# Altium integrated library Altium_WE-SPXO (rev19a).IntLib: 134 symbols (part 1 of 2)
Pins are listed as number, name and electrical type; pins without a type are passive.

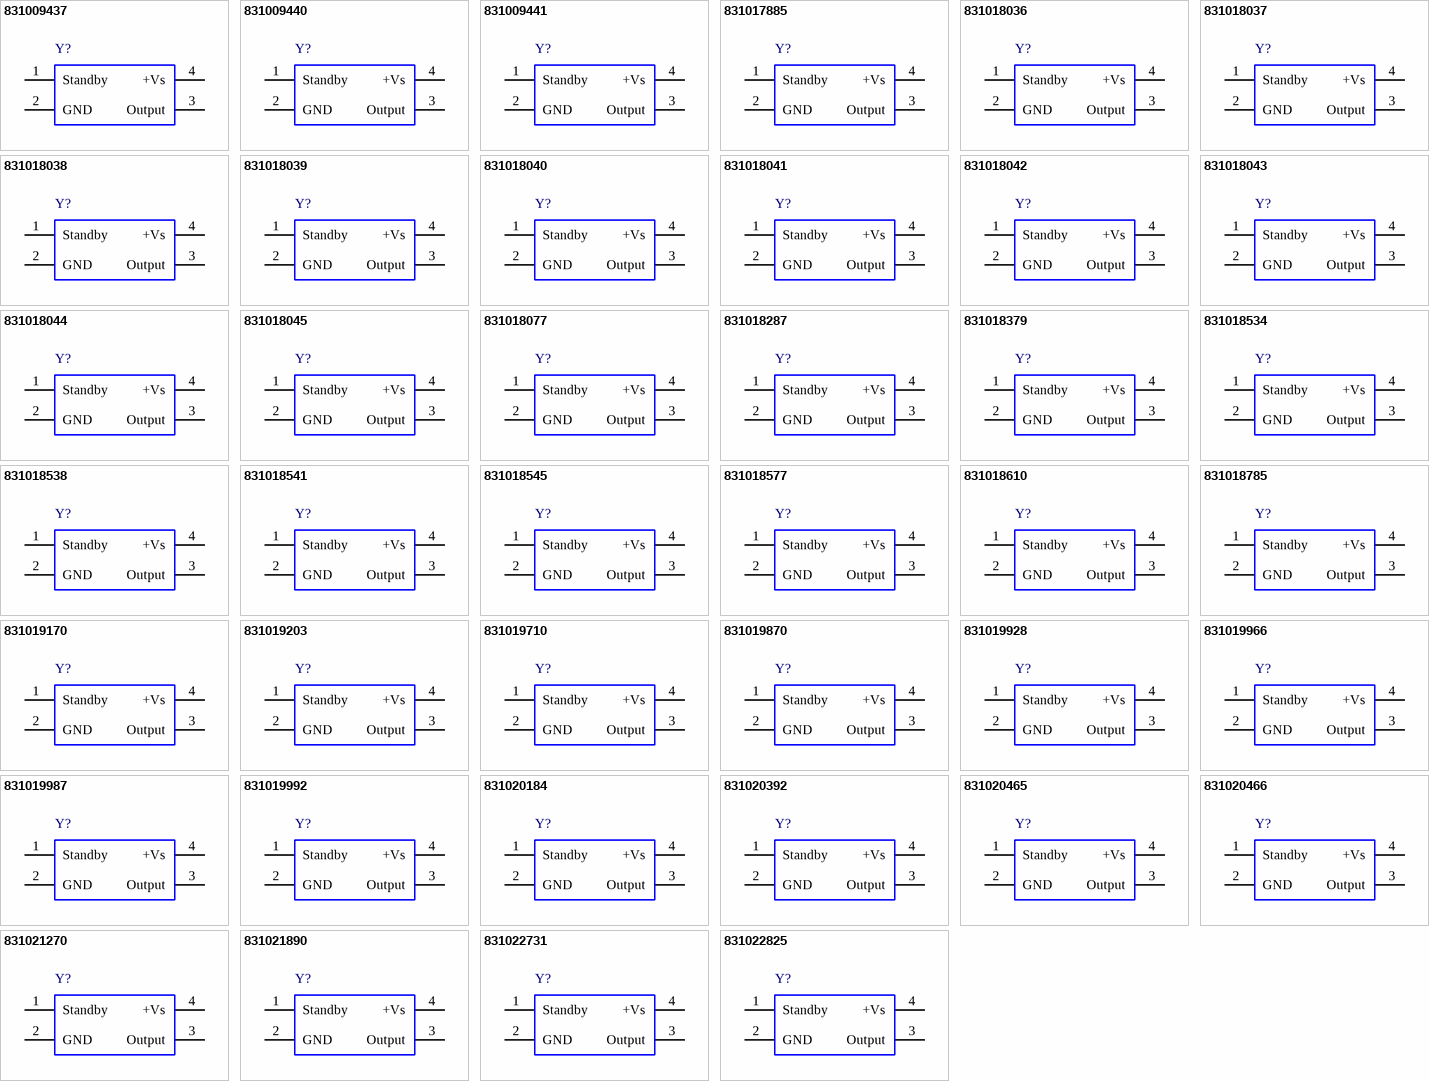
[diagram p0: symbols 831009437 to 831022825]

## 831009437
designator Y?, comment 100MHz, +/-50ppm, 3.3V  (value not drawn)
WE-SPXO Simple Packaged Quartz Oscillator, size CFPS-73, 100MHz, +/-50ppm, 3.3V; Part Number: 831009437; Frequency Stability: 50ppm; ComponentLink1Description: Manufacturer; ComponentLink1URL: http://www.we-online.de; ComponentLink2Description: Datasheet; ComponentLink2URL: https://katalog.we-online.com/pbs/datasheet/831009437.pdf; Published Date: March 2019; Publisher: Wurth Elektronik; Size: CFPS-73; Operating Temperature: 0 up to +70degC; Mounting Technology: SMT; Packaging: Tape and Reel; Supply Voltage: 3.3V; Frequency: 100MHz
footprint WE-SPXO_CFPS-73
pins: 1 Standby, 2 GND, 3 Output, 4 +Vs

## 831009440
designator Y?, comment 125MHz, +/-50ppm, 3.3V  (value not drawn)
WE-SPXO Simple Packaged Quartz Oscillator, size CFPS-73, 125MHz, +/-50ppm, 3.3V; Part Number: 831009440; Frequency Stability: 50ppm; ComponentLink1Description: Manufacturer; ComponentLink1URL: http://www.we-online.de; ComponentLink2Description: Datasheet; ComponentLink2URL: https://katalog.we-online.com/pbs/datasheet/831009440.pdf; Published Date: March 2019; Publisher: Wurth Elektronik; Size: CFPS-73; Operating Temperature: 0 up to +70degC; Mounting Technology: SMT; Packaging: Tape and Reel; Supply Voltage: 3.3V; Frequency: 125MHz
footprint WE-SPXO_CFPS-73
pins: 1 Standby, 2 GND, 3 Output, 4 +Vs

## 831009441
designator Y?, comment 80MHz, +/-50ppm, 3.3V  (value not drawn)
WE-SPXO Simple Packaged Quartz Oscillator, size CFPS-73, 80MHz, +/-50ppm, 3.3V; Part Number: 831009441; Frequency Stability: 50ppm; ComponentLink1Description: Manufacturer; ComponentLink1URL: http://www.we-online.de; ComponentLink2Description: Datasheet; ComponentLink2URL: https://katalog.we-online.com/pbs/datasheet/831009441.pdf; Published Date: March 2019; Publisher: Wurth Elektronik; Size: CFPS-73; Operating Temperature: 0 up to +70degC; Mounting Technology: SMT; Packaging: Tape and Reel; Supply Voltage: 3.3V; Frequency: 80MHz
footprint WE-SPXO_CFPS-73
pins: 1 Standby, 2 GND, 3 Output, 4 +Vs

## 831017885
designator Y?, comment 40MHz, +/-50ppm, 3.3V  (value not drawn)
WE-SPXO Simple Packaged Quartz Oscillator, size CFPS-73, 40MHz, +/-50ppm, 3.3V; Part Number: 831017885; Frequency Stability: 50ppm; ComponentLink1Description: Manufacturer; ComponentLink1URL: http://www.we-online.de; ComponentLink2Description: Datasheet; ComponentLink2URL: https://katalog.we-online.com/pbs/datasheet/831017885.pdf; Published Date: March 2019; Publisher: Wurth Elektronik; Size: CFPS-73; Operating Temperature: -40 up to +85degC; Mounting Technology: SMT; Packaging: Tape and Reel; Supply Voltage: 3.3V; Frequency: 40MHz
footprint WE-SPXO_CFPS-73
pins: 1 Standby, 2 GND, 3 Output, 4 +Vs

## 831018036
designator Y?, comment 10MHz, +/-50ppm, 3.3V  (value not drawn)
WE-SPXO Simple Packaged Quartz Oscillator, size CFPS-73, 10MHz, +/-50ppm, 3.3V; Part Number: 831018036; Frequency Stability: 50ppm; ComponentLink1Description: Manufacturer; ComponentLink1URL: http://www.we-online.de; ComponentLink2Description: Datasheet; ComponentLink2URL: https://katalog.we-online.com/pbs/datasheet/831018036.pdf; Published Date: March 2019; Publisher: Wurth Elektronik; Size: CFPS-73; Operating Temperature: 0 up to +70degC; Mounting Technology: SMT; Packaging: Tape and Reel; Supply Voltage: 3.3V; Frequency: 10MHz
footprint WE-SPXO_CFPS-73
pins: 1 Standby, 2 GND, 3 Output, 4 +Vs

## 831018037
designator Y?, comment 12MHz, +/-50ppm, 3.3V  (value not drawn)
WE-SPXO Simple Packaged Quartz Oscillator, size CFPS-73, 12MHz, +/-50ppm, 3.3V; Part Number: 831018037; Frequency Stability: 50ppm; ComponentLink1Description: Manufacturer; ComponentLink1URL: http://www.we-online.de; ComponentLink2Description: Datasheet; ComponentLink2URL: https://katalog.we-online.com/pbs/datasheet/831018037.pdf; Published Date: March 2019; Publisher: Wurth Elektronik; Size: CFPS-73; Operating Temperature: 0 up to +70degC; Mounting Technology: SMT; Packaging: Tape and Reel; Supply Voltage: 3.3V; Frequency: 12MHz
footprint WE-SPXO_CFPS-73
pins: 1 Standby, 2 GND, 3 Output, 4 +Vs

## 831018038
designator Y?, comment 16MHz, +/-50ppm, 3.3V  (value not drawn)
WE-SPXO Simple Packaged Quartz Oscillator, size CFPS-73, 16MHz, +/-50ppm, 3.3V; Part Number: 831018038; Frequency Stability: 50ppm; ComponentLink1Description: Manufacturer; ComponentLink1URL: http://www.we-online.de; ComponentLink2Description: Datasheet; ComponentLink2URL: https://katalog.we-online.com/pbs/datasheet/831018038.pdf; Published Date: March 2019; Publisher: Wurth Elektronik; Size: CFPS-73; Operating Temperature: 0 up to +70degC; Mounting Technology: SMT; Packaging: Tape and Reel; Supply Voltage: 3.3V; Frequency: 16MHz
footprint WE-SPXO_CFPS-73
pins: 1 Standby, 2 GND, 3 Output, 4 +Vs

## 831018039
designator Y?, comment 20MHz, +/-50ppm, 3.3V  (value not drawn)
WE-SPXO Simple Packaged Quartz Oscillator, size CFPS-73, 20MHz, +/-50ppm, 3.3V; Part Number: 831018039; Frequency Stability: 50ppm; ComponentLink1Description: Manufacturer; ComponentLink1URL: http://www.we-online.de; ComponentLink2Description: Datasheet; ComponentLink2URL: https://katalog.we-online.com/pbs/datasheet/831018039.pdf; Published Date: March 2019; Publisher: Wurth Elektronik; Size: CFPS-73; Operating Temperature: 0 up to +70degC; Mounting Technology: SMT; Packaging: Tape and Reel; Supply Voltage: 3.3V; Frequency: 20MHz
footprint WE-SPXO_CFPS-73
pins: 1 Standby, 2 GND, 3 Output, 4 +Vs

## 831018040
designator Y?, comment 32MHz, +/-50ppm, 3.3V  (value not drawn)
WE-SPXO Simple Packaged Quartz Oscillator, size CFPS-73, 32MHz, +/-50ppm, 3.3V; Part Number: 831018040; Frequency Stability: 50ppm; ComponentLink1Description: Manufacturer; ComponentLink1URL: http://www.we-online.de; ComponentLink2Description: Datasheet; ComponentLink2URL: https://katalog.we-online.com/pbs/datasheet/831018040.pdf; Published Date: March 2019; Publisher: Wurth Elektronik; Size: CFPS-73; Operating Temperature: 0 up to +70degC; Mounting Technology: SMT; Packaging: Tape and Reel; Supply Voltage: 3.3V; Frequency: 32MHz
footprint WE-SPXO_CFPS-73
pins: 1 Standby, 2 GND, 3 Output, 4 +Vs

## 831018041
designator Y?, comment 4MHz, +/-50ppm, 3.3V  (value not drawn)
WE-SPXO Simple Packaged Quartz Oscillator, size CFPS-73, 4MHz, +/-50ppm, 3.3V; Part Number: 831018041; Frequency Stability: 50ppm; ComponentLink1Description: Manufacturer; ComponentLink1URL: http://www.we-online.de; ComponentLink2Description: Datasheet; ComponentLink2URL: https://katalog.we-online.com/pbs/datasheet/831018041.pdf; Published Date: March 2019; Publisher: Wurth Elektronik; Size: CFPS-73; Operating Temperature: 0 up to +70degC; Mounting Technology: SMT; Packaging: Tape and Reel; Supply Voltage: 3.3V; Frequency: 4MHz
footprint WE-SPXO_CFPS-73
pins: 1 Standby, 2 GND, 3 Output, 4 +Vs

## 831018042
designator Y?, comment 40MHz, +/-50ppm, 3.3V  (value not drawn)
WE-SPXO Simple Packaged Quartz Oscillator, size CFPS-73, 40MHz, +/-50ppm, 3.3V; Part Number: 831018042; Frequency Stability: 50ppm; ComponentLink1Description: Manufacturer; ComponentLink1URL: http://www.we-online.de; ComponentLink2Description: Datasheet; ComponentLink2URL: https://katalog.we-online.com/pbs/datasheet/831018042.pdf; Published Date: March 2019; Publisher: Wurth Elektronik; Size: CFPS-73; Operating Temperature: 0 up to +70degC; Mounting Technology: SMT; Packaging: Tape and Reel; Supply Voltage: 3.3V; Frequency: 40MHz
footprint WE-SPXO_CFPS-73
pins: 1 Standby, 2 GND, 3 Output, 4 +Vs

## 831018043
designator Y?, comment 48MHz, +/-50ppm, 3.3V  (value not drawn)
WE-SPXO Simple Packaged Quartz Oscillator, size CFPS-73, 48MHz, +/-50ppm, 3.3V; Part Number: 831018043; Frequency Stability: 50ppm; ComponentLink1Description: Manufacturer; ComponentLink1URL: http://www.we-online.de; ComponentLink2Description: Datasheet; ComponentLink2URL: https://katalog.we-online.com/pbs/datasheet/831018043.pdf; Published Date: March 2019; Publisher: Wurth Elektronik; Size: CFPS-73; Operating Temperature: 0 up to +70degC; Mounting Technology: SMT; Packaging: Tape and Reel; Supply Voltage: 3.3V; Frequency: 48MHz
footprint WE-SPXO_CFPS-73
pins: 1 Standby, 2 GND, 3 Output, 4 +Vs

## 831018044
designator Y?, comment 50MHz, +/-50ppm, 3.3V  (value not drawn)
WE-SPXO Simple Packaged Quartz Oscillator, size CFPS-73, 50MHz, +/-50ppm, 3.3V; Part Number: 831018044; Frequency Stability: 50ppm; ComponentLink1Description: Manufacturer; ComponentLink1URL: http://www.we-online.de; ComponentLink2Description: Datasheet; ComponentLink2URL: https://katalog.we-online.com/pbs/datasheet/831018044.pdf; Published Date: March 2019; Publisher: Wurth Elektronik; Size: CFPS-73; Operating Temperature: 0 up to +70degC; Mounting Technology: SMT; Packaging: Tape and Reel; Supply Voltage: 3.3V; Frequency: 50MHz
footprint WE-SPXO_CFPS-73
pins: 1 Standby, 2 GND, 3 Output, 4 +Vs

## 831018045
designator Y?, comment 8MHz, +/-50ppm, 3.3V  (value not drawn)
WE-SPXO Simple Packaged Quartz Oscillator, size CFPS-73, 8MHz, +/-50ppm, 3.3V; Part Number: 831018045; Frequency Stability: 50ppm; ComponentLink1Description: Manufacturer; ComponentLink1URL: http://www.we-online.de; ComponentLink2Description: Datasheet; ComponentLink2URL: https://katalog.we-online.com/pbs/datasheet/831018045.pdf; Published Date: March 2019; Publisher: Wurth Elektronik; Size: CFPS-73; Operating Temperature: 0 up to +70degC; Mounting Technology: SMT; Packaging: Tape and Reel; Supply Voltage: 3.3V; Frequency: 8MHz
footprint WE-SPXO_CFPS-73
pins: 1 Standby, 2 GND, 3 Output, 4 +Vs

## 831018077
designator Y?, comment 25MHz, +/-50ppm, 3.3V  (value not drawn)
WE-SPXO Simple Packaged Quartz Oscillator, size CFPS-73, 25MHz, +/-50ppm, 3.3V; Part Number: 831018077; Frequency Stability: 50ppm; ComponentLink1Description: Manufacturer; ComponentLink1URL: http://www.we-online.de; ComponentLink2Description: Datasheet; ComponentLink2URL: https://katalog.we-online.com/pbs/datasheet/831018077.pdf; Published Date: March 2019; Publisher: Wurth Elektronik; Size: CFPS-73; Operating Temperature: 0 up to +70degC; Mounting Technology: SMT; Packaging: Tape and Reel; Supply Voltage: 3.3V; Frequency: 25MHz
footprint WE-SPXO_CFPS-73
pins: 1 Standby, 2 GND, 3 Output, 4 +Vs

## 831018287
designator Y?, comment 48MHz, +/-100ppm, 3.3V  (value not drawn)
WE-SPXO Simple Packaged Quartz Oscillator, size CFPS-73, 48MHz, +/-100ppm, 3.3V; Part Number: 831018287; Frequency Stability: 100ppm; ComponentLink1Description: Manufacturer; ComponentLink1URL: http://www.we-online.de; ComponentLink2Description: Datasheet; ComponentLink2URL: https://katalog.we-online.com/pbs/datasheet/831018287.pdf; Published Date: March 2019; Publisher: Wurth Elektronik; Size: CFPS-73; Operating Temperature: -40 up to +85degC; Mounting Technology: SMT; Packaging: Tape and Reel; Supply Voltage: 3.3V; Frequency: 48MHz
footprint WE-SPXO_CFPS-73
pins: 1 Standby, 2 GND, 3 Output, 4 +Vs

## 831018379
designator Y?, comment 4MHz, +/-50ppm, 3.3V  (value not drawn)
WE-SPXO Simple Packaged Quartz Oscillator, size CFPS-73, 4MHz, +/-50ppm, 3.3V; Part Number: 831018379; Frequency Stability: 50ppm; ComponentLink1Description: Manufacturer; ComponentLink1URL: http://www.we-online.de; ComponentLink2Description: Datasheet; ComponentLink2URL: https://katalog.we-online.com/pbs/datasheet/831018379.pdf; Published Date: March 2019; Publisher: Wurth Elektronik; Size: CFPS-73; Operating Temperature: -40 up to +85degC; Mounting Technology: SMT; Packaging: Tape and Reel; Supply Voltage: 3.3V; Frequency: 4MHz
footprint WE-SPXO_CFPS-73
pins: 1 Standby, 2 GND, 3 Output, 4 +Vs

## 831018534
designator Y?, comment 6MHz, +/-50ppm, 3.3V  (value not drawn)
WE-SPXO Simple Packaged Quartz Oscillator, size CFPS-73, 6MHz, +/-50ppm, 3.3V; Part Number: 831018534; Frequency Stability: 50ppm; ComponentLink1Description: Manufacturer; ComponentLink1URL: http://www.we-online.de; ComponentLink2Description: Datasheet; ComponentLink2URL: https://katalog.we-online.com/pbs/datasheet/831018534.pdf; Published Date: March 2019; Publisher: Wurth Elektronik; Size: CFPS-73; Operating Temperature: 0 up to +70degC; Mounting Technology: SMT; Packaging: Tape and Reel; Supply Voltage: 3.3V; Frequency: 6MHz
footprint WE-SPXO_CFPS-73
pins: 1 Standby, 2 GND, 3 Output, 4 +Vs

## 831018538
designator Y?, comment 14.31818MHz, +/-50ppm, 3.3V  (value not drawn)
WE-SPXO Simple Packaged Quartz Oscillator, size CFPS-73, 14.31818MHz, +/-50ppm, 3.3V; Part Number: 831018538; Frequency Stability: 50ppm; ComponentLink1Description: Manufacturer; ComponentLink1URL: http://www.we-online.de; ComponentLink2Description: Datasheet; ComponentLink2URL: https://katalog.we-online.com/pbs/datasheet/831018538.pdf; Published Date: March 2019; Publisher: Wurth Elektronik; Size: CFPS-73; Operating Temperature: 0 up to +70degC; Mounting Technology: SMT; Packaging: Tape and Reel; Supply Voltage: 3.3V; Frequency: 14.31818MHz
footprint WE-SPXO_CFPS-73
pins: 1 Standby, 2 GND, 3 Output, 4 +Vs

## 831018541
designator Y?, comment 24MHz, +/-50ppm, 3.3V  (value not drawn)
WE-SPXO Simple Packaged Quartz Oscillator, size CFPS-73, 24MHz, +/-50ppm, 3.3V; Part Number: 831018541; Frequency Stability: 50ppm; ComponentLink1Description: Manufacturer; ComponentLink1URL: http://www.we-online.de; ComponentLink2Description: Datasheet; ComponentLink2URL: https://katalog.we-online.com/pbs/datasheet/831018541.pdf; Published Date: March 2019; Publisher: Wurth Elektronik; Size: CFPS-73; Operating Temperature: 0 up to +70degC; Mounting Technology: SMT; Packaging: Tape and Reel; Supply Voltage: 3.3V; Frequency: 24MHz
footprint WE-SPXO_CFPS-73
pins: 1 Standby, 2 GND, 3 Output, 4 +Vs

## 831018545
designator Y?, comment 60MHz, +/-50ppm, 3.3V  (value not drawn)
WE-SPXO Simple Packaged Quartz Oscillator, size CFPS-73, 60MHz, +/-50ppm, 3.3V; Part Number: 831018545; Frequency Stability: 50ppm; ComponentLink1Description: Manufacturer; ComponentLink1URL: http://www.we-online.de; ComponentLink2Description: Datasheet; ComponentLink2URL: https://katalog.we-online.com/pbs/datasheet/831018545.pdf; Published Date: March 2019; Publisher: Wurth Elektronik; Size: CFPS-73; Operating Temperature: 0 up to +70degC; Mounting Technology: SMT; Packaging: Tape and Reel; Supply Voltage: 3.3V; Frequency: 60MHz
footprint WE-SPXO_CFPS-73
pins: 1 Standby, 2 GND, 3 Output, 4 +Vs

## 831018577
designator Y?, comment 48MHz, +/-50ppm, 3.3V  (value not drawn)
WE-SPXO Simple Packaged Quartz Oscillator, size CFPS-73, 48MHz, +/-50ppm, 3.3V; Part Number: 831018577; Frequency Stability: 50ppm; ComponentLink1Description: Manufacturer; ComponentLink1URL: http://www.we-online.de; ComponentLink2Description: Datasheet; ComponentLink2URL: https://katalog.we-online.com/pbs/datasheet/831018577.pdf; Published Date: March 2019; Publisher: Wurth Elektronik; Size: CFPS-73; Operating Temperature: -40 up to +85degC; Mounting Technology: SMT; Packaging: Tape and Reel; Supply Voltage: 3.3V; Frequency: 48MHz
footprint WE-SPXO_CFPS-73
pins: 1 Standby, 2 GND, 3 Output, 4 +Vs

## 831018610
designator Y?, comment 3.6864MHz, +/-50ppm, 3.3V  (value not drawn)
WE-SPXO Simple Packaged Quartz Oscillator, size CFPS-73, 3.6864MHz, +/-50ppm, 3.3V; Part Number: 831018610; Frequency Stability: 50ppm; ComponentLink1Description: Manufacturer; ComponentLink1URL: http://www.we-online.de; ComponentLink2Description: Datasheet; ComponentLink2URL: https://katalog.we-online.com/pbs/datasheet/831018610.pdf; Published Date: March 2019; Publisher: Wurth Elektronik; Size: CFPS-73; Operating Temperature: 0 up to +70degC; Mounting Technology: SMT; Packaging: Tape and Reel; Supply Voltage: 3.3V; Frequency: 3.6864MHz
footprint WE-SPXO_CFPS-73
pins: 1 Standby, 2 GND, 3 Output, 4 +Vs

## 831018785
designator Y?, comment 12MHz, +/-100ppm, 3.3V  (value not drawn)
WE-SPXO Simple Packaged Quartz Oscillator, size CFPS-73, 12MHz, +/-100ppm, 3.3V; Part Number: 831018785; Frequency Stability: 100ppm; ComponentLink1Description: Manufacturer; ComponentLink1URL: http://www.we-online.de; ComponentLink2Description: Datasheet; ComponentLink2URL: https://katalog.we-online.com/pbs/datasheet/831018785.pdf; Published Date: March 2019; Publisher: Wurth Elektronik; Size: CFPS-73; Operating Temperature: -40 up to +85degC; Mounting Technology: SMT; Packaging: Tape and Reel; Supply Voltage: 3.3V; Frequency: 12MHz
footprint WE-SPXO_CFPS-73
pins: 1 Standby, 2 GND, 3 Output, 4 +Vs

## 831019170
designator Y?, comment 25MHz, +/-50ppm, 3.3V  (value not drawn)
WE-SPXO Simple Packaged Quartz Oscillator, size CFPS-73, 25MHz, +/-50ppm, 3.3V; Part Number: 831019170; Frequency Stability: 50ppm; ComponentLink1Description: Manufacturer; ComponentLink1URL: http://www.we-online.de; ComponentLink2Description: Datasheet; ComponentLink2URL: https://katalog.we-online.com/pbs/datasheet/831019170.pdf; Published Date: March 2019; Publisher: Wurth Elektronik; Size: CFPS-73; Operating Temperature: -40 up to +85degC; Mounting Technology: SMT; Packaging: Tape and Reel; Supply Voltage: 3.3V; Frequency: 25MHz
footprint WE-SPXO_CFPS-73
pins: 1 Standby, 2 GND, 3 Output, 4 +Vs

## 831019203
designator Y?, comment 32.768MHz, +/-50ppm, 3.3V  (value not drawn)
WE-SPXO Simple Packaged Quartz Oscillator, size CFPS-73, 32.768MHz, +/-50ppm, 3.3V; Part Number: 831019203; Frequency Stability: 50ppm; ComponentLink1Description: Manufacturer; ComponentLink1URL: http://www.we-online.de; ComponentLink2Description: Datasheet; ComponentLink2URL: https://katalog.we-online.com/pbs/datasheet/831019203.pdf; Published Date: March 2019; Publisher: Wurth Elektronik; Size: CFPS-73; Operating Temperature: 0 up to +70degC; Mounting Technology: SMT; Packaging: Tape and Reel; Supply Voltage: 3.3V; Frequency: 32.768MHz
footprint WE-SPXO_CFPS-73
pins: 1 Standby, 2 GND, 3 Output, 4 +Vs

## 831019710
designator Y?, comment 16MHz, +/-50ppm, 3.3V  (value not drawn)
WE-SPXO Simple Packaged Quartz Oscillator, size CFPS-73, 16MHz, +/-50ppm, 3.3V; Part Number: 831019710; Frequency Stability: 50ppm; ComponentLink1Description: Manufacturer; ComponentLink1URL: http://www.we-online.de; ComponentLink2Description: Datasheet; ComponentLink2URL: https://katalog.we-online.com/pbs/datasheet/831019710.pdf; Published Date: March 2019; Publisher: Wurth Elektronik; Size: CFPS-73; Operating Temperature: -40 up to +85degC; Mounting Technology: SMT; Packaging: Tape and Reel; Supply Voltage: 3.3V; Frequency: 16MHz
footprint WE-SPXO_CFPS-73
pins: 1 Standby, 2 GND, 3 Output, 4 +Vs

## 831019870
designator Y?, comment 40MHz, +/-100ppm, 3.3V  (value not drawn)
WE-SPXO Simple Packaged Quartz Oscillator, size CFPS-73, 40MHz, +/-100ppm, 3.3V; Part Number: 831019870; Frequency Stability: 100ppm; ComponentLink1Description: Manufacturer; ComponentLink1URL: http://www.we-online.de; ComponentLink2Description: Datasheet; ComponentLink2URL: https://katalog.we-online.com/pbs/datasheet/831019870.pdf; Published Date: March 2019; Publisher: Wurth Elektronik; Size: CFPS-73; Operating Temperature: -40 up to +85degC; Mounting Technology: SMT; Packaging: Tape and Reel; Supply Voltage: 3.3V; Frequency: 40MHz
footprint WE-SPXO_CFPS-73
pins: 1 Standby, 2 GND, 3 Output, 4 +Vs

## 831019928
designator Y?, comment 10MHz, +/-50ppm, 3.3V  (value not drawn)
WE-SPXO Simple Packaged Quartz Oscillator, size CFPS-73, 10MHz, +/-50ppm, 3.3V; Part Number: 831019928; Frequency Stability: 50ppm; ComponentLink1Description: Manufacturer; ComponentLink1URL: http://www.we-online.de; ComponentLink2Description: Datasheet; ComponentLink2URL: https://katalog.we-online.com/pbs/datasheet/831019928.pdf; Published Date: March 2019; Publisher: Wurth Elektronik; Size: CFPS-73; Operating Temperature: -40 up to +85degC; Mounting Technology: SMT; Packaging: Tape and Reel; Supply Voltage: 3.3V; Frequency: 10MHz
footprint WE-SPXO_CFPS-73
pins: 1 Standby, 2 GND, 3 Output, 4 +Vs

## 831019966
designator Y?, comment 12MHz, +/-50ppm, 3.3V  (value not drawn)
WE-SPXO Simple Packaged Quartz Oscillator, size CFPS-73, 12MHz, +/-50ppm, 3.3V; Part Number: 831019966; Frequency Stability: 50ppm; ComponentLink1Description: Manufacturer; ComponentLink1URL: http://www.we-online.de; ComponentLink2Description: Datasheet; ComponentLink2URL: https://katalog.we-online.com/pbs/datasheet/831019966.pdf; Published Date: March 2019; Publisher: Wurth Elektronik; Size: CFPS-73; Operating Temperature: -40 up to +85degC; Mounting Technology: SMT; Packaging: Tape and Reel; Supply Voltage: 3.3V; Frequency: 12MHz
footprint WE-SPXO_CFPS-73
pins: 1 Standby, 2 GND, 3 Output, 4 +Vs

## 831019987
designator Y?, comment 50MHz, +/-50ppm, 3.3V  (value not drawn)
WE-SPXO Simple Packaged Quartz Oscillator, size CFPS-73, 50MHz, +/-50ppm, 3.3V; Part Number: 831019987; Frequency Stability: 50ppm; ComponentLink1Description: Manufacturer; ComponentLink1URL: http://www.we-online.de; ComponentLink2Description: Datasheet; ComponentLink2URL: https://katalog.we-online.com/pbs/datasheet/831019987.pdf; Published Date: March 2019; Publisher: Wurth Elektronik; Size: CFPS-73; Operating Temperature: -40 up to +85degC; Mounting Technology: SMT; Packaging: Tape and Reel; Supply Voltage: 3.3V; Frequency: 50MHz
footprint WE-SPXO_CFPS-73
pins: 1 Standby, 2 GND, 3 Output, 4 +Vs

## 831019992
designator Y?, comment 20MHz, +/-50ppm, 3.3V  (value not drawn)
WE-SPXO Simple Packaged Quartz Oscillator, size CFPS-73, 20MHz, +/-50ppm, 3.3V; Part Number: 831019992; Frequency Stability: 50ppm; ComponentLink1Description: Manufacturer; ComponentLink1URL: http://www.we-online.de; ComponentLink2Description: Datasheet; ComponentLink2URL: https://katalog.we-online.com/pbs/datasheet/831019992.pdf; Published Date: March 2019; Publisher: Wurth Elektronik; Size: CFPS-73; Operating Temperature: -40 up to +85degC; Mounting Technology: SMT; Packaging: Tape and Reel; Supply Voltage: 3.3V; Frequency: 20MHz
footprint WE-SPXO_CFPS-73
pins: 1 Standby, 2 GND, 3 Output, 4 +Vs

## 831020184
designator Y?, comment 14.31818MHz, +/-50ppm, 3.3V  (value not drawn)
WE-SPXO Simple Packaged Quartz Oscillator, size CFPS-73, 14.31818MHz, +/-50ppm, 3.3V; Part Number: 831020184; Frequency Stability: 50ppm; ComponentLink1Description: Manufacturer; ComponentLink1URL: http://www.we-online.de; ComponentLink2Description: Datasheet; ComponentLink2URL: https://katalog.we-online.com/pbs/datasheet/831020184.pdf; Published Date: March 2019; Publisher: Wurth Elektronik; Size: CFPS-73; Operating Temperature: -40 up to +85degC; Mounting Technology: SMT; Packaging: Tape and Reel; Supply Voltage: 3.3V; Frequency: 14.31818MHz
footprint WE-SPXO_CFPS-73
pins: 1 Standby, 2 GND, 3 Output, 4 +Vs

## 831020392
designator Y?, comment 18.432MHz, +/-50ppm, 3.3V  (value not drawn)
WE-SPXO Simple Packaged Quartz Oscillator, size CFPS-73, 18.432MHz, +/-50ppm, 3.3V; Part Number: 831020392; Frequency Stability: 50ppm; ComponentLink1Description: Manufacturer; ComponentLink1URL: http://www.we-online.de; ComponentLink2Description: Datasheet; ComponentLink2URL: https://katalog.we-online.com/pbs/datasheet/831020392.pdf; Published Date: March 2019; Publisher: Wurth Elektronik; Size: CFPS-73; Operating Temperature: -40 up to +85degC; Mounting Technology: SMT; Packaging: Tape and Reel; Supply Voltage: 3.3V; Frequency: 18.432MHz
footprint WE-SPXO_CFPS-73
pins: 1 Standby, 2 GND, 3 Output, 4 +Vs

## 831020465
designator Y?, comment 12.288MHz, +/-50ppm, 3.3V  (value not drawn)
WE-SPXO Simple Packaged Quartz Oscillator, size CFPS-73, 12.288MHz, +/-50ppm, 3.3V; Part Number: 831020465; Frequency Stability: 50ppm; ComponentLink1Description: Manufacturer; ComponentLink1URL: http://www.we-online.de; ComponentLink2Description: Datasheet; ComponentLink2URL: https://katalog.we-online.com/pbs/datasheet/831020465.pdf; Published Date: March 2019; Publisher: Wurth Elektronik; Size: CFPS-73; Operating Temperature: 0 up to +70degC; Mounting Technology: SMT; Packaging: Tape and Reel; Supply Voltage: 3.3V; Frequency: 12.288MHz
footprint WE-SPXO_CFPS-73
pins: 1 Standby, 2 GND, 3 Output, 4 +Vs

## 831020466
designator Y?, comment 16.384MHz, +/-50ppm, 3.3V  (value not drawn)
WE-SPXO Simple Packaged Quartz Oscillator, size CFPS-73, 16.384MHz, +/-50ppm, 3.3V; Part Number: 831020466; Frequency Stability: 50ppm; ComponentLink1Description: Manufacturer; ComponentLink1URL: http://www.we-online.de; ComponentLink2Description: Datasheet; ComponentLink2URL: https://katalog.we-online.com/pbs/datasheet/831020466.pdf; Published Date: March 2019; Publisher: Wurth Elektronik; Size: CFPS-73; Operating Temperature: 0 up to +70degC; Mounting Technology: SMT; Packaging: Tape and Reel; Supply Voltage: 3.3V; Frequency: 16.384MHz
footprint WE-SPXO_CFPS-73
pins: 1 Standby, 2 GND, 3 Output, 4 +Vs

## 831021270
designator Y?, comment 24MHz, +/-50ppm, 3.3V  (value not drawn)
WE-SPXO Simple Packaged Quartz Oscillator, size CFPS-73, 24MHz, +/-50ppm, 3.3V; Part Number: 831021270; Frequency Stability: 50ppm; ComponentLink1Description: Manufacturer; ComponentLink1URL: http://www.we-online.de; ComponentLink2Description: Datasheet; ComponentLink2URL: https://katalog.we-online.com/pbs/datasheet/831021270.pdf; Published Date: March 2019; Publisher: Wurth Elektronik; Size: CFPS-73; Operating Temperature: -40 up to +85degC; Mounting Technology: SMT; Packaging: Tape and Reel; Supply Voltage: 3.3V; Frequency: 24MHz
footprint WE-SPXO_CFPS-73
pins: 1 Standby, 2 GND, 3 Output, 4 +Vs

## 831021890
designator Y?, comment 8MHz, +/-50ppm, 3.3V  (value not drawn)
WE-SPXO Simple Packaged Quartz Oscillator, size CFPS-73, 8MHz, +/-50ppm, 3.3V; Part Number: 831021890; Frequency Stability: 50ppm; ComponentLink1Description: Manufacturer; ComponentLink1URL: http://www.we-online.de; ComponentLink2Description: Datasheet; ComponentLink2URL: https://katalog.we-online.com/pbs/datasheet/831021890.pdf; Published Date: March 2019; Publisher: Wurth Elektronik; Size: CFPS-73; Operating Temperature: -40 up to +85degC; Mounting Technology: SMT; Packaging: Tape and Reel; Supply Voltage: 3.3V; Frequency: 8MHz
footprint WE-SPXO_CFPS-73
pins: 1 Standby, 2 GND, 3 Output, 4 +Vs

## 831022731
designator Y?, comment 100MHz, +/-50ppm, 3.3V  (value not drawn)
WE-SPXO Simple Packaged Quartz Oscillator, size CFPS-73, 100MHz, +/-50ppm, 3.3V; Part Number: 831022731; Frequency Stability: 50ppm; ComponentLink1Description: Manufacturer; ComponentLink1URL: http://www.we-online.de; ComponentLink2Description: Datasheet; ComponentLink2URL: https://katalog.we-online.com/pbs/datasheet/831022731.pdf; Published Date: March 2019; Publisher: Wurth Elektronik; Size: CFPS-73; Operating Temperature: -40 up to +85degC; Mounting Technology: SMT; Packaging: Tape and Reel; Supply Voltage: 3.3V; Frequency: 100MHz
footprint WE-SPXO_CFPS-73
pins: 1 Standby, 2 GND, 3 Output, 4 +Vs

## 831022825
designator Y?, comment 125MHz, +/-50ppm, 3.3V  (value not drawn)
WE-SPXO Simple Packaged Quartz Oscillator, size CFPS-73, 125MHz, +/-50ppm, 3.3V; Part Number: 831022825; Frequency Stability: 50ppm; ComponentLink1Description: Manufacturer; ComponentLink1URL: http://www.we-online.de; ComponentLink2Description: Datasheet; ComponentLink2URL: https://katalog.we-online.com/pbs/datasheet/831022825.pdf; Published Date: March 2019; Publisher: Wurth Elektronik; Size: CFPS-73; Operating Temperature: -40 up to +85degC; Mounting Technology: SMT; Packaging: Tape and Reel; Supply Voltage: 3.3V; Frequency: 125MHz
footprint WE-SPXO_CFPS-73
pins: 1 Standby, 2 GND, 3 Output, 4 +Vs


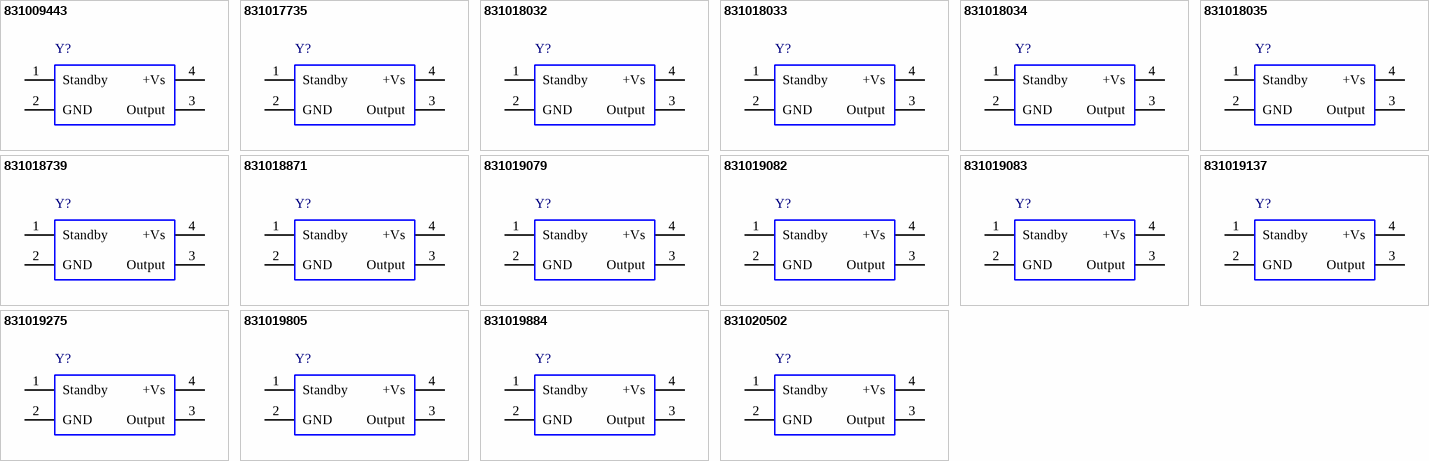
[diagram p1: symbols 831009443 to 831020502]

## 831009443
designator Y?, comment 80MHz, +/-50ppm, 5V  (value not drawn)
WE-SPXO Simple Packaged Quartz Oscillator, size CFPS-72, 80MHz, +/-50ppm, 5V; Part Number: 831009443; Frequency Stability: 50ppm; ComponentLink1Description: Manufacturer; ComponentLink1URL: http://www.we-online.de; ComponentLink2Description: Datasheet; ComponentLink2URL: https://katalog.we-online.com/pbs/datasheet/831009443.pdf; Published Date: March 2019; Publisher: Wurth Elektronik; Size: CFPS-72; Operating Temperature: 0 up to +70degC; Mounting Technology: SMT; Packaging: Tape and Reel; Supply Voltage: 5V; Frequency: 80MHz
footprint WE-SPXO_CFPS-72
pins: 1 Standby, 2 GND, 3 Output, 4 +Vs

## 831017735
designator Y?, comment 10MHz, +/-50ppm, 5V  (value not drawn)
WE-SPXO Simple Packaged Quartz Oscillator, size CFPS-72, 10MHz, +/-50ppm, 5V; Part Number: 831017735; Frequency Stability: 50ppm; ComponentLink1Description: Manufacturer; ComponentLink1URL: http://www.we-online.de; ComponentLink2Description: Datasheet; ComponentLink2URL: https://katalog.we-online.com/pbs/datasheet/831017735.pdf; Published Date: March 2019; Publisher: Wurth Elektronik; Size: CFPS-72; Operating Temperature: 0 up to +70degC; Mounting Technology: SMT; Packaging: Tape and Reel; Supply Voltage: 5V; Frequency: 10MHz
footprint WE-SPXO_CFPS-72
pins: 1 Standby, 2 GND, 3 Output, 4 +Vs

## 831018032
designator Y?, comment 20MHz, +/-50ppm, 5V  (value not drawn)
WE-SPXO Simple Packaged Quartz Oscillator, size CFPS-72, 20MHz, +/-50ppm, 5V; Part Number: 831018032; Frequency Stability: 50ppm; ComponentLink1Description: Manufacturer; ComponentLink1URL: http://www.we-online.de; ComponentLink2Description: Datasheet; ComponentLink2URL: https://katalog.we-online.com/pbs/datasheet/831018032.pdf; Published Date: March 2019; Publisher: Wurth Elektronik; Size: CFPS-72; Operating Temperature: 0 up to +70degC; Mounting Technology: SMT; Packaging: Tape and Reel; Supply Voltage: 5V; Frequency: 20MHz
footprint WE-SPXO_CFPS-72
pins: 1 Standby, 2 GND, 3 Output, 4 +Vs

## 831018033
designator Y?, comment 4MHz, +/-50ppm, 5V  (value not drawn)
WE-SPXO Simple Packaged Quartz Oscillator, size CFPS-72, 4MHz, +/-50ppm, 5V; Part Number: 831018033; Frequency Stability: 50ppm; ComponentLink1Description: Manufacturer; ComponentLink1URL: http://www.we-online.de; ComponentLink2Description: Datasheet; ComponentLink2URL: https://katalog.we-online.com/pbs/datasheet/831018033.pdf; Published Date: March 2019; Publisher: Wurth Elektronik; Size: CFPS-72; Operating Temperature: 0 up to +70degC; Mounting Technology: SMT; Packaging: Tape and Reel; Supply Voltage: 5V; Frequency: 4MHz
footprint WE-SPXO_CFPS-72
pins: 1 Standby, 2 GND, 3 Output, 4 +Vs

## 831018034
designator Y?, comment 16MHz, +/-50ppm, 5V  (value not drawn)
WE-SPXO Simple Packaged Quartz Oscillator, size CFPS-72, 16MHz, +/-50ppm, 5V; Part Number: 831018034; Frequency Stability: 50ppm; ComponentLink1Description: Manufacturer; ComponentLink1URL: http://www.we-online.de; ComponentLink2Description: Datasheet; ComponentLink2URL: https://katalog.we-online.com/pbs/datasheet/831018034.pdf; Published Date: March 2019; Publisher: Wurth Elektronik; Size: CFPS-72; Operating Temperature: 0 up to +70degC; Mounting Technology: SMT; Packaging: Tape and Reel; Supply Voltage: 5V; Frequency: 16MHz
footprint WE-SPXO_CFPS-72
pins: 1 Standby, 2 GND, 3 Output, 4 +Vs

## 831018035
designator Y?, comment 50MHz, +/-50ppm, 5V  (value not drawn)
WE-SPXO Simple Packaged Quartz Oscillator, size CFPS-72, 50MHz, +/-50ppm, 5V; Part Number: 831018035; Frequency Stability: 50ppm; ComponentLink1Description: Manufacturer; ComponentLink1URL: http://www.we-online.de; ComponentLink2Description: Datasheet; ComponentLink2URL: https://katalog.we-online.com/pbs/datasheet/831018035.pdf; Published Date: March 2019; Publisher: Wurth Elektronik; Size: CFPS-72; Operating Temperature: 0 up to +70degC; Mounting Technology: SMT; Packaging: Tape and Reel; Supply Voltage: 5V; Frequency: 50MHz
footprint WE-SPXO_CFPS-72
pins: 1 Standby, 2 GND, 3 Output, 4 +Vs

## 831018739
designator Y?, comment 40MHz, +/-50ppm, 5V  (value not drawn)
WE-SPXO Simple Packaged Quartz Oscillator, size CFPS-72, 40MHz, +/-50ppm, 5V; Part Number: 831018739; Frequency Stability: 50ppm; ComponentLink1Description: Manufacturer; ComponentLink1URL: http://www.we-online.de; ComponentLink2Description: Datasheet; ComponentLink2URL: https://katalog.we-online.com/pbs/datasheet/831018739.pdf; Published Date: March 2019; Publisher: Wurth Elektronik; Size: CFPS-72; Operating Temperature: 0 up to +70degC; Mounting Technology: SMT; Packaging: Tape and Reel; Supply Voltage: 5V; Frequency: 40MHz
footprint WE-SPXO_CFPS-72
pins: 1 Standby, 2 GND, 3 Output, 4 +Vs

## 831018871
designator Y?, comment 48MHz, +/-100ppm, 5V  (value not drawn)
WE-SPXO Simple Packaged Quartz Oscillator, size CFPS-72, 48MHz, +/-100ppm, 5V; Part Number: 831018871; Frequency Stability: 100ppm; ComponentLink1Description: Manufacturer; ComponentLink1URL: http://www.we-online.de; ComponentLink2Description: Datasheet; ComponentLink2URL: https://katalog.we-online.com/pbs/datasheet/831018871.pdf; Published Date: March 2019; Publisher: Wurth Elektronik; Size: CFPS-72; Operating Temperature: -40 up to +85degC; Mounting Technology: SMT; Packaging: Tape and Reel; Supply Voltage: 5V; Frequency: 48MHz
footprint WE-SPXO_CFPS-72
pins: 1 Standby, 2 GND, 3 Output, 4 +Vs

## 831019079
designator Y?, comment 8MHz, +/-50ppm, 5V  (value not drawn)
WE-SPXO Simple Packaged Quartz Oscillator, size CFPS-72, 8MHz, +/-50ppm, 5V; Part Number: 831019079; Frequency Stability: 50ppm; ComponentLink1Description: Manufacturer; ComponentLink1URL: http://www.we-online.de; ComponentLink2Description: Datasheet; ComponentLink2URL: https://katalog.we-online.com/pbs/datasheet/831019079.pdf; Published Date: March 2019; Publisher: Wurth Elektronik; Size: CFPS-72; Operating Temperature: 0 up to +70degC; Mounting Technology: SMT; Packaging: Tape and Reel; Supply Voltage: 5V; Frequency: 8MHz
footprint WE-SPXO_CFPS-72
pins: 1 Standby, 2 GND, 3 Output, 4 +Vs

## 831019082
designator Y?, comment 24MHz, +/-50ppm, 5V  (value not drawn)
WE-SPXO Simple Packaged Quartz Oscillator, size CFPS-72, 24MHz, +/-50ppm, 5V; Part Number: 831019082; Frequency Stability: 50ppm; ComponentLink1Description: Manufacturer; ComponentLink1URL: http://www.we-online.de; ComponentLink2Description: Datasheet; ComponentLink2URL: https://katalog.we-online.com/pbs/datasheet/831019082.pdf; Published Date: March 2019; Publisher: Wurth Elektronik; Size: CFPS-72; Operating Temperature: 0 up to +70degC; Mounting Technology: SMT; Packaging: Tape and Reel; Supply Voltage: 5V; Frequency: 24MHz
footprint WE-SPXO_CFPS-72
pins: 1 Standby, 2 GND, 3 Output, 4 +Vs

## 831019083
designator Y?, comment 32MHz, +/-50ppm, 5V  (value not drawn)
WE-SPXO Simple Packaged Quartz Oscillator, size CFPS-72, 32MHz, +/-50ppm, 5V; Part Number: 831019083; Frequency Stability: 50ppm; ComponentLink1Description: Manufacturer; ComponentLink1URL: http://www.we-online.de; ComponentLink2Description: Datasheet; ComponentLink2URL: https://katalog.we-online.com/pbs/datasheet/831019083.pdf; Published Date: March 2019; Publisher: Wurth Elektronik; Size: CFPS-72; Operating Temperature: 0 up to +70degC; Mounting Technology: SMT; Packaging: Tape and Reel; Supply Voltage: 5V; Frequency: 32MHz
footprint WE-SPXO_CFPS-72
pins: 1 Standby, 2 GND, 3 Output, 4 +Vs

## 831019137
designator Y?, comment 40MHz, +/-50ppm, 5V  (value not drawn)
WE-SPXO Simple Packaged Quartz Oscillator, size CFPS-72, 40MHz, +/-50ppm, 5V; Part Number: 831019137; Frequency Stability: 50ppm; ComponentLink1Description: Manufacturer; ComponentLink1URL: http://www.we-online.de; ComponentLink2Description: Datasheet; ComponentLink2URL: https://katalog.we-online.com/pbs/datasheet/831019137.pdf; Published Date: March 2019; Publisher: Wurth Elektronik; Size: CFPS-72; Operating Temperature: -40 up to +85degC; Mounting Technology: SMT; Packaging: Tape and Reel; Supply Voltage: 5V; Frequency: 40MHz
footprint WE-SPXO_CFPS-72
pins: 1 Standby, 2 GND, 3 Output, 4 +Vs

## 831019275
designator Y?, comment 16MHz, +/-50ppm, 5V  (value not drawn)
WE-SPXO Simple Packaged Quartz Oscillator, size CFPS-72, 16MHz, +/-50ppm, 5V; Part Number: 831019275; Frequency Stability: 50ppm; ComponentLink1Description: Manufacturer; ComponentLink1URL: http://www.we-online.de; ComponentLink2Description: Datasheet; ComponentLink2URL: https://katalog.we-online.com/pbs/datasheet/831019275.pdf; Published Date: March 2019; Publisher: Wurth Elektronik; Size: CFPS-72; Operating Temperature: -40 up to +85degC; Mounting Technology: SMT; Packaging: Tape and Reel; Supply Voltage: 5V; Frequency: 16MHz
footprint WE-SPXO_CFPS-72
pins: 1 Standby, 2 GND, 3 Output, 4 +Vs

## 831019805
designator Y?, comment 48MHz, +/-50ppm, 5V  (value not drawn)
WE-SPXO Simple Packaged Quartz Oscillator, size CFPS-72, 48MHz, +/-50ppm, 5V; Part Number: 831019805; Frequency Stability: 50ppm; ComponentLink1Description: Manufacturer; ComponentLink1URL: http://www.we-online.de; ComponentLink2Description: Datasheet; ComponentLink2URL: https://katalog.we-online.com/pbs/datasheet/831019805.pdf; Published Date: March 2019; Publisher: Wurth Elektronik; Size: CFPS-72; Operating Temperature: -40 up to +85degC; Mounting Technology: SMT; Packaging: Tape and Reel; Supply Voltage: 5V; Frequency: 48MHz
footprint WE-SPXO_CFPS-72
pins: 1 Standby, 2 GND, 3 Output, 4 +Vs

## 831019884
designator Y?, comment 48MHz, +/-50ppm, 5V  (value not drawn)
WE-SPXO Simple Packaged Quartz Oscillator, size CFPS-72, 48MHz, +/-50ppm, 5V; Part Number: 831019884; Frequency Stability: 50ppm; ComponentLink1Description: Manufacturer; ComponentLink1URL: http://www.we-online.de; ComponentLink2Description: Datasheet; ComponentLink2URL: https://katalog.we-online.com/pbs/datasheet/831019884.pdf; Published Date: March 2019; Publisher: Wurth Elektronik; Size: CFPS-72; Operating Temperature: 0 up to +70degC; Mounting Technology: SMT; Packaging: Tape and Reel; Supply Voltage: 5V; Frequency: 48MHz
footprint WE-SPXO_CFPS-72
pins: 1 Standby, 2 GND, 3 Output, 4 +Vs

## 831020502
designator Y?, comment 4MHz, +/-50ppm, 5V  (value not drawn)
WE-SPXO Simple Packaged Quartz Oscillator, size CFPS-72, 4MHz, +/-50ppm, 5V; Part Number: 831020502; Frequency Stability: 50ppm; ComponentLink1Description: Manufacturer; ComponentLink1URL: http://www.we-online.de; ComponentLink2Description: Datasheet; ComponentLink2URL: https://katalog.we-online.com/pbs/datasheet/831020502.pdf; Published Date: March 2019; Publisher: Wurth Elektronik; Size: CFPS-72; Operating Temperature: -40 up to +85degC; Mounting Technology: SMT; Packaging: Tape and Reel; Supply Voltage: 5V; Frequency: 4MHz
footprint WE-SPXO_CFPS-72
pins: 1 Standby, 2 GND, 3 Output, 4 +Vs


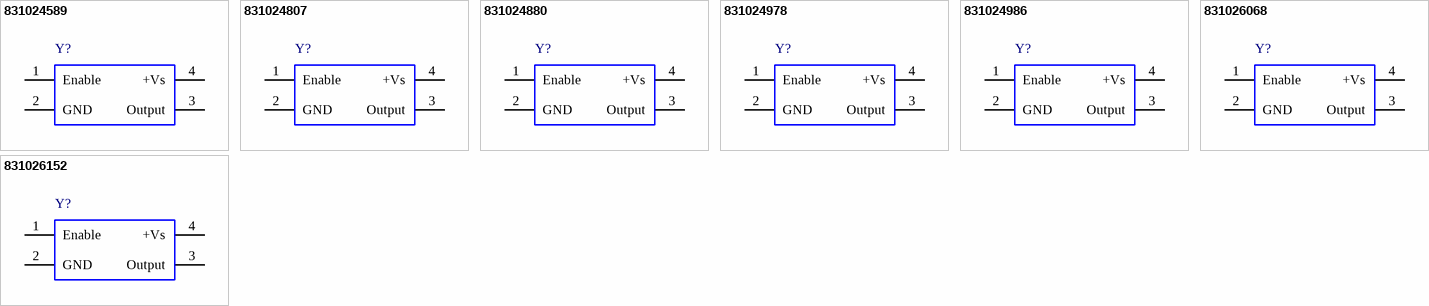
[diagram p2: symbols 831024589 to 831026152]

## 831024589
designator Y?, comment 50MHz, +/-50ppm, 3.3V  (value not drawn)
WE-SPXO Simple Packaged Quartz Oscillator, size CFPS-9, 50MHz, +/-50ppm, 3.3V; Part Number: 831024589; Frequency Stability: 50ppm; ComponentLink1Description: Manufacturer; ComponentLink1URL: http://www.we-online.de; ComponentLink2Description: Datasheet; ComponentLink2URL: https://katalog.we-online.com/pbs/datasheet/831024589.pdf; Published Date: March 2019; Publisher: Wurth Elektronik; Size: CFPS-9; Operating Temperature: -40 up to +85degC; Mounting Technology: SMT; Packaging: Tape and Reel; Supply Voltage: 3.3V; Frequency: 50MHz
footprint WE-SPXO_CFPS-9
pins: 1 Enable, 2 GND, 3 Output, 4 +Vs

## 831024807
designator Y?, comment 10MHz, +/-50ppm, 3.3V  (value not drawn)
WE-SPXO Simple Packaged Quartz Oscillator, size CFPS-9, 10MHz, +/-50ppm, 3.3V; Part Number: 831024807; Frequency Stability: 50ppm; ComponentLink1Description: Manufacturer; ComponentLink1URL: http://www.we-online.de; ComponentLink2Description: Datasheet; ComponentLink2URL: https://katalog.we-online.com/pbs/datasheet/831024807.pdf; Published Date: March 2019; Publisher: Wurth Elektronik; Size: CFPS-9; Operating Temperature: -40 up to +85degC; Mounting Technology: SMT; Packaging: Tape and Reel; Supply Voltage: 3.3V; Frequency: 10MHz
footprint WE-SPXO_CFPS-9
pins: 1 Enable, 2 GND, 3 Output, 4 +Vs

## 831024880
designator Y?, comment 32MHz, +/-50ppm, 3.3V  (value not drawn)
WE-SPXO Simple Packaged Quartz Oscillator, size CFPS-9, 32MHz, +/-50ppm, 3.3V; Part Number: 831024880; Frequency Stability: 50ppm; ComponentLink1Description: Manufacturer; ComponentLink1URL: http://www.we-online.de; ComponentLink2Description: Datasheet; ComponentLink2URL: https://katalog.we-online.com/pbs/datasheet/831024880.pdf; Published Date: March 2019; Publisher: Wurth Elektronik; Size: CFPS-9; Operating Temperature: -40 up to +85degC; Mounting Technology: SMT; Packaging: Tape and Reel; Supply Voltage: 3.3V; Frequency: 32MHz
footprint WE-SPXO_CFPS-9
pins: 1 Enable, 2 GND, 3 Output, 4 +Vs

## 831024978
designator Y?, comment 4MHz, +/-50ppm, 3.3V  (value not drawn)
WE-SPXO Simple Packaged Quartz Oscillator, size CFPS-9, 4MHz, +/-50ppm, 3.3V; Part Number: 831024978; Frequency Stability: 50ppm; ComponentLink1Description: Manufacturer; ComponentLink1URL: http://www.we-online.de; ComponentLink2Description: Datasheet; ComponentLink2URL: https://katalog.we-online.com/pbs/datasheet/831024978.pdf; Published Date: March 2019; Publisher: Wurth Elektronik; Size: CFPS-9; Operating Temperature: -40 up to +85degC; Mounting Technology: SMT; Packaging: Tape and Reel; Supply Voltage: 3.3V; Frequency: 4MHz
footprint WE-SPXO_CFPS-9
pins: 1 Enable, 2 GND, 3 Output, 4 +Vs

## 831024986
designator Y?, comment 24MHz, +/-50ppm, 3.3V  (value not drawn)
WE-SPXO Simple Packaged Quartz Oscillator, size CFPS-9, 24MHz, +/-50ppm, 3.3V; Part Number: 831024986; Frequency Stability: 50ppm; ComponentLink1Description: Manufacturer; ComponentLink1URL: http://www.we-online.de; ComponentLink2Description: Datasheet; ComponentLink2URL: https://katalog.we-online.com/pbs/datasheet/831024986.pdf; Published Date: March 2019; Publisher: Wurth Elektronik; Size: CFPS-9; Operating Temperature: -40 up to +85degC; Mounting Technology: SMT; Packaging: Tape and Reel; Supply Voltage: 3.3V; Frequency: 24MHz
footprint WE-SPXO_CFPS-9
pins: 1 Enable, 2 GND, 3 Output, 4 +Vs

## 831026068
designator Y?, comment 40MHz, +/-50ppm, 3.3V  (value not drawn)
WE-SPXO Simple Packaged Quartz Oscillator, size CFPS-9, 40MHz, +/-50ppm, 3.3V; Part Number: 831026068; Frequency Stability: 50ppm; ComponentLink1Description: Manufacturer; ComponentLink1URL: http://www.we-online.de; ComponentLink2Description: Datasheet; ComponentLink2URL: https://katalog.we-online.com/pbs/datasheet/831026068.pdf; Published Date: March 2019; Publisher: Wurth Elektronik; Size: CFPS-9; Operating Temperature: -40 up to +85degC; Mounting Technology: SMT; Packaging: Tape and Reel; Supply Voltage: 3.3V; Frequency: 40MHz
footprint WE-SPXO_CFPS-9
pins: 1 Enable, 2 GND, 3 Output, 4 +Vs

## 831026152
designator Y?, comment 12MHz, +/-50ppm, 3.3V  (value not drawn)
WE-SPXO Simple Packaged Quartz Oscillator, size CFPS-9, 12MHz, +/-50ppm, 3.3V; Part Number: 831026152; Frequency Stability: 50ppm; ComponentLink1Description: Manufacturer; ComponentLink1URL: http://www.we-online.de; ComponentLink2Description: Datasheet; ComponentLink2URL: https://katalog.we-online.com/pbs/datasheet/831026152.pdf; Published Date: March 2019; Publisher: Wurth Elektronik; Size: CFPS-9; Operating Temperature: -40 up to +85degC; Mounting Technology: SMT; Packaging: Tape and Reel; Supply Voltage: 3.3V; Frequency: 12MHz
footprint WE-SPXO_CFPS-9
pins: 1 Enable, 2 GND, 3 Output, 4 +Vs


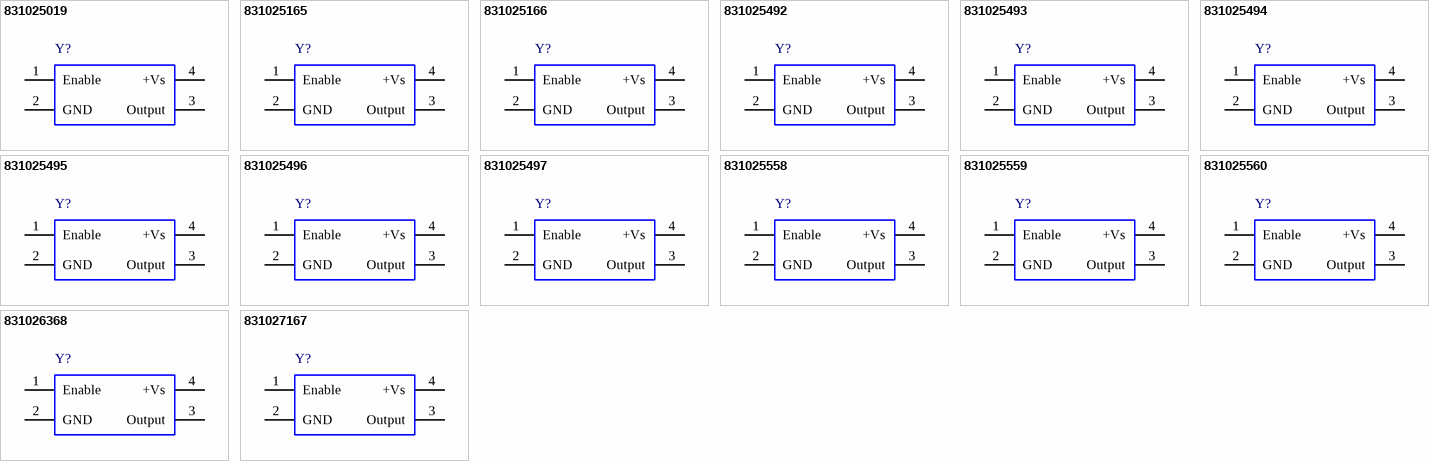
[diagram p3: symbols 831025019 to 831027167]

## 831025019
designator Y?, comment 32MHz, +/-50ppm, 3.3V  (value not drawn)
WE-SPXO Simple Packaged Quartz Oscillator, size CFPS-39, 32MHz, +/-50ppm, 3.3V; Part Number: 831025019; Frequency Stability: 50ppm; ComponentLink1Description: Manufacturer; ComponentLink1URL: http://www.we-online.de; ComponentLink2Description: Datasheet; ComponentLink2URL: https://katalog.we-online.com/pbs/datasheet/831025019.pdf; Published Date: March 2019; Publisher: Wurth Elektronik; Size: CFPS-39; Operating Temperature: -40 up to +85degC; Mounting Technology: SMT; Packaging: Tape and Reel; Supply Voltage: 3.3V; Frequency: 32MHz
footprint WE-SPXO_CFPS-39
pins: 1 Enable, 2 GND, 3 Output, 4 +Vs

## 831025165
designator Y?, comment 25MHz, +/-50ppm, 3.3V  (value not drawn)
WE-SPXO Simple Packaged Quartz Oscillator, size CFPS-39, 25MHz, +/-50ppm, 3.3V; Part Number: 831025165; Frequency Stability: 50ppm; ComponentLink1Description: Manufacturer; ComponentLink1URL: http://www.we-online.de; ComponentLink2Description: Datasheet; ComponentLink2URL: https://katalog.we-online.com/pbs/datasheet/831025165.pdf; Published Date: March 2019; Publisher: Wurth Elektronik; Size: CFPS-39; Operating Temperature: -40 up to +85degC; Mounting Technology: SMT; Packaging: Tape and Reel; Supply Voltage: 3.3V; Frequency: 25MHz
footprint WE-SPXO_CFPS-39
pins: 1 Enable, 2 GND, 3 Output, 4 +Vs

## 831025166
designator Y?, comment 48MHz, +/-50ppm, 3.3V  (value not drawn)
WE-SPXO Simple Packaged Quartz Oscillator, size CFPS-39, 48MHz, +/-50ppm, 3.3V; Part Number: 831025166; Frequency Stability: 50ppm; ComponentLink1Description: Manufacturer; ComponentLink1URL: http://www.we-online.de; ComponentLink2Description: Datasheet; ComponentLink2URL: https://katalog.we-online.com/pbs/datasheet/831025166.pdf; Published Date: March 2019; Publisher: Wurth Elektronik; Size: CFPS-39; Operating Temperature: -40 up to +85degC; Mounting Technology: SMT; Packaging: Tape and Reel; Supply Voltage: 3.3V; Frequency: 48MHz
footprint WE-SPXO_CFPS-39
pins: 1 Enable, 2 GND, 3 Output, 4 +Vs

## 831025492
designator Y?, comment 12MHz, +/-50ppm, 3.3V  (value not drawn)
WE-SPXO Simple Packaged Quartz Oscillator, size CFPS-39, 12MHz, +/-50ppm, 3.3V; Part Number: 831025492; Frequency Stability: 50ppm; ComponentLink1Description: Manufacturer; ComponentLink1URL: http://www.we-online.de; ComponentLink2Description: Datasheet; ComponentLink2URL: https://katalog.we-online.com/pbs/datasheet/831025492.pdf; Published Date: March 2019; Publisher: Wurth Elektronik; Size: CFPS-39; Operating Temperature: -40 up to +85degC; Mounting Technology: SMT; Packaging: Tape and Reel; Supply Voltage: 3.3V; Frequency: 12MHz
footprint WE-SPXO_CFPS-39
pins: 1 Enable, 2 GND, 3 Output, 4 +Vs

## 831025493
designator Y?, comment 14.31818MHz, +/-50ppm, 3.3V  (value not drawn)
WE-SPXO Simple Packaged Quartz Oscillator, size CFPS-39, 14.31818MHz, +/-50ppm, 3.3V; Part Number: 831025493; Frequency Stability: 50ppm; ComponentLink1Description: Manufacturer; ComponentLink1URL: http://www.we-online.de; ComponentLink2Description: Datasheet; ComponentLink2URL: https://katalog.we-online.com/pbs/datasheet/831025493.pdf; Published Date: March 2019; Publisher: Wurth Elektronik; Size: CFPS-39; Operating Temperature: -40 up to +85degC; Mounting Technology: SMT; Packaging: Tape and Reel; Supply Voltage: 3.3V; Frequency: 14.31818MHz
footprint WE-SPXO_CFPS-39
pins: 1 Enable, 2 GND, 3 Output, 4 +Vs

## 831025494
designator Y?, comment 16MHz, +/-50ppm, 3.3V  (value not drawn)
WE-SPXO Simple Packaged Quartz Oscillator, size CFPS-39, 16MHz, +/-50ppm, 3.3V; Part Number: 831025494; Frequency Stability: 50ppm; ComponentLink1Description: Manufacturer; ComponentLink1URL: http://www.we-online.de; ComponentLink2Description: Datasheet; ComponentLink2URL: https://katalog.we-online.com/pbs/datasheet/831025494.pdf; Published Date: March 2019; Publisher: Wurth Elektronik; Size: CFPS-39; Operating Temperature: -40 up to +85degC; Mounting Technology: SMT; Packaging: Tape and Reel; Supply Voltage: 3.3V; Frequency: 16MHz
footprint WE-SPXO_CFPS-39
pins: 1 Enable, 2 GND, 3 Output, 4 +Vs

## 831025495
designator Y?, comment 20MHz, +/-50ppm, 3.3V  (value not drawn)
WE-SPXO Simple Packaged Quartz Oscillator, size CFPS-39, 20MHz, +/-50ppm, 3.3V; Part Number: 831025495; Frequency Stability: 50ppm; ComponentLink1Description: Manufacturer; ComponentLink1URL: http://www.we-online.de; ComponentLink2Description: Datasheet; ComponentLink2URL: https://katalog.we-online.com/pbs/datasheet/831025495.pdf; Published Date: March 2019; Publisher: Wurth Elektronik; Size: CFPS-39; Operating Temperature: -40 up to +85degC; Mounting Technology: SMT; Packaging: Tape and Reel; Supply Voltage: 3.3V; Frequency: 20MHz
footprint WE-SPXO_CFPS-39
pins: 1 Enable, 2 GND, 3 Output, 4 +Vs

## 831025496
designator Y?, comment 24.576MHz, +/-50ppm, 3.3V  (value not drawn)
WE-SPXO Simple Packaged Quartz Oscillator, size CFPS-39, 24.576MHz, +/-50ppm, 3.3V; Part Number: 831025496; Frequency Stability: 50ppm; ComponentLink1Description: Manufacturer; ComponentLink1URL: http://www.we-online.de; ComponentLink2Description: Datasheet; ComponentLink2URL: https://katalog.we-online.com/pbs/datasheet/831025496.pdf; Published Date: March 2019; Publisher: Wurth Elektronik; Size: CFPS-39; Operating Temperature: -40 up to +85degC; Mounting Technology: SMT; Packaging: Tape and Reel; Supply Voltage: 3.3V; Frequency: 24.576MHz
footprint WE-SPXO_CFPS-39
pins: 1 Enable, 2 GND, 3 Output, 4 +Vs

## 831025497
designator Y?, comment 30MHz, +/-50ppm, 3.3V  (value not drawn)
WE-SPXO Simple Packaged Quartz Oscillator, size CFPS-39, 30MHz, +/-50ppm, 3.3V; Part Number: 831025497; Frequency Stability: 50ppm; ComponentLink1Description: Manufacturer; ComponentLink1URL: http://www.we-online.de; ComponentLink2Description: Datasheet; ComponentLink2URL: https://katalog.we-online.com/pbs/datasheet/831025497.pdf; Published Date: March 2019; Publisher: Wurth Elektronik; Size: CFPS-39; Operating Temperature: -40 up to +85degC; Mounting Technology: SMT; Packaging: Tape and Reel; Supply Voltage: 3.3V; Frequency: 30MHz
footprint WE-SPXO_CFPS-39
pins: 1 Enable, 2 GND, 3 Output, 4 +Vs